# Altium footprint library Arduino_4_Layer.PcbLib: 19 footprints (part 2 of 2)
Each footprint in its own frame and in the unit in brackets; x right, y up, seen from the top. Pads: shape width x height; smd on the part's side, far side on the other; paste and mask are expansions set on the pad; w line width, h text height; cw(c..) or ccw(c..) is an arc to the next point about the centre after c.
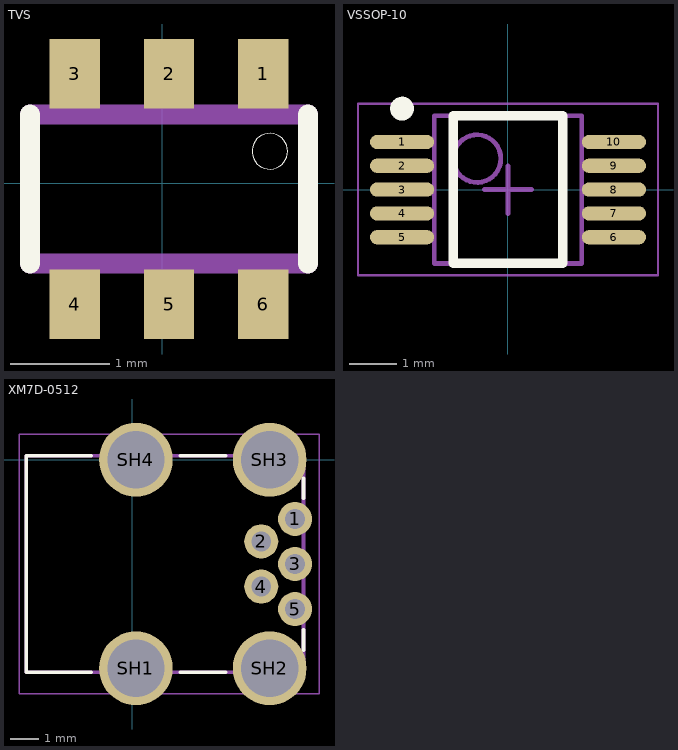
[diagram p1: the footprints below, top view; thin cyan lines are the x and y axes]

## TVS [mm]
pads (6):
  rect 0.508x0.7 smd: 1(1.02,1.105) 2(0.07,1.105) 3(-0.88,1.105) 4(-0.88,-1.219) 5(0.07,-1.219) 6(1.02,-1.219)
Top Overlay:
  circle w0: c1.086,0.324 r0.18
  lines w0.203: -1.33,-0.807 -1.33,0.693 ; 1.47,-0.807 1.47,0.693
Mechanical 4:
  region: -1.03,-0.857 -0.73,-0.857 -0.73,-1.482 -1.03,-1.482
  region: -0.73,0.743 -1.03,0.743 -1.03,1.368 -0.73,1.368
  region: -0.08,-0.857 0.22,-0.857 0.22,-1.482 -0.08,-1.482
  region: 0.22,0.743 -0.08,0.743 -0.08,1.368 0.22,1.368
  region: 0.87,-0.857 1.17,-0.857 1.17,-1.482 0.87,-1.482
  region: 1.17,0.743 0.87,0.743 0.87,1.368 1.17,1.368
  region: -1.03,-0.857 -0.73,-0.857 -0.73,-1.482 -1.03,-1.482
  region: -0.73,0.743 -1.03,0.743 -1.03,1.368 -0.73,1.368
  region: -0.08,-0.857 0.22,-0.857 0.22,-1.482 -0.08,-1.482
  region: 0.22,0.743 -0.08,0.743 -0.08,1.368 0.22,1.368
  region: 0.87,-0.857 1.17,-0.857 1.17,-1.482 0.87,-1.482
  region: 1.17,0.743 0.87,0.743 0.87,1.368 1.17,1.368
  lines w0.203: -1.33,-0.807 1.47,-0.807 -1.33,-0.807 ; -1.33,0.693 1.47,0.693 -1.33,0.693

## VSSOP-10 [mm] "TSSOP, 10-Leads, Body 3.00x3.00mm, Pitch 0.50mm, IPC Medium Density"
height 1.1
pads (10):
  oval 1.35x0.3 smd mask+0.05: 1(-2.225,1) 2(-2.225,0.5) 3(-2.225,0) 4(-2.225,-0.5) 5(-2.225,-1) 6(2.225,-1) 7(2.225,-0.5) 8(2.225,0) 9(2.225,0.5) 10(2.225,1)
Top Overlay:
  circle w0.25: c-2.225,1.7 r0.125
  lines w0.2: -1.15,-1.55 1.15,-1.55 1.15,1.55 -1.15,1.55 -1.15,-1.55
Mechanical 13:
  circle w0.1: c-0.65,0.65 r0.5
  lines w0.1: -1.55,-1.55 1.55,-1.55 1.55,1.55 -1.55,1.55 -1.55,-1.55
Mechanical 15:
  lines w0.05: -3.15,-1.8 3.15,-1.8 3.15,1.8 -3.15,1.8 -3.15,-1.8
  lines w0.1: -0.5,0 0.5,0 ; 0,-0.5 0,0.5
3D body "TSSOP50P490X110-10N.step": height 1.1, standoff 0, extent -2.45,-1.55 2.45,1.55

## XM7D-0512 [mm]
pads (9):
  round 1.208 hole 0.7 mask+0.05: 1(5.777,-2.1) 2(4.577,-2.9) 3(5.777,-3.7) 4(4.577,-4.5) 5(5.777,-5.3)
  round 2.616 hole 2.032: SH1(0.127,-7.4) SH2(4.877,-7.4) SH3(4.877,0) SH4(0.127,0)
Top Overlay:
  lines w0.127: -1.463,-7.55 -3.773,-7.55 -3.773,0.15 -1.463,0.15 ; 1.697,-7.55 3.307,-7.55 ; 1.697,0.15 3.307,0.15 ; 6.077,-6.76 6.077,-6.03 ; 6.077,-1.36 6.077,-0.65
Mechanical 1:
  lines w0: -0.823,-7.8 -0.823,-7 1.077,-7 1.077,-7.8 -0.823,-7.8 ; -0.823,-0.4 -0.823,0.4 1.077,0.4 1.077,-0.4 -0.823,-0.4 ; 3.927,-7.8 3.927,-7 5.827,-7 5.827,-7.8 3.927,-7.8 ; 3.927,-0.4 3.927,0.4 5.827,0.4 5.827,-0.4 3.927,-0.4
Mechanical 4:
  lines w0.127: -3.773,-7.55 -3.773,0.15 ; -3.773,-7.55 6.077,-7.55 ; -3.773,-7.55 -3.773,0.15 ; -3.773,-7.55 6.077,-7.55 ; -3.773,0.15 6.077,0.15 ; -3.773,0.15 6.077,0.15 ; 6.077,-7.55 6.077,0.15 ; 6.077,-7.55 6.077,0.15
Mechanical 16:
  lines w0.05: -4.023,-8.3 6.627,-8.3 6.627,0.9 -4.023,0.9 -4.023,-8.3
3D body "XM7D-0512.STEP": height 3.95, standoff -1.95, extent -3.8,-7.75 6.05,0.35